# Altium footprint library DUS_9_8_15_0_5.PcbLib: 1 footprints
Each footprint in its own frame and in the unit in brackets; x right, y up, seen from the top. Pads: shape width x height; smd on the part's side, far side on the other; paste and mask are expansions set on the pad; w line width, h text height; cw(c..) or ccw(c..) is an arc to the next point about the centre after c.
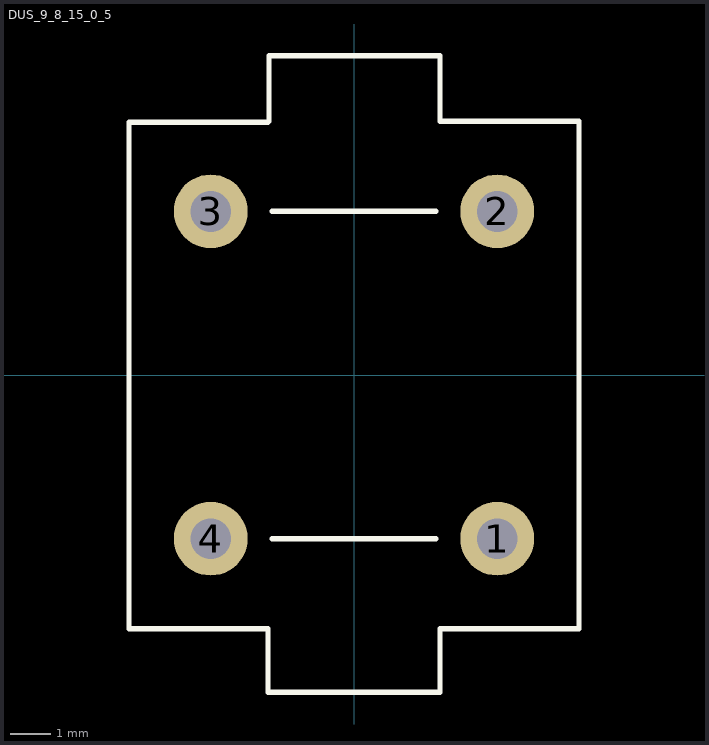
[diagram p0: the footprint, top view; thin cyan lines are the x and y axes]

## DUS_9_8_15_0_5 [mm] "DUS-9,8/.15/0,5"
pads (4):
  round 1.8 hole 1: 1(3.5,-4) 2(3.5,4) 3(-3.5,4) 4(-3.5,-4)
Top Overlay:
  lines w0.127: -2.1,-7.75 -2.1,-6.2 -5.5,-6.2 -5.5,6.175 -2.1,6.175 -2.075,6.2 -2.075,7.8 2.1,7.8 2.1,6.2 ; -2.1,-7.75 2.1,-7.75 2.1,-6.2 ; -2,-4 2,-4 ; -2,4 2,4 ; 2.1,-6.2 5.5,-6.2 5.5,6.2 2.1,6.2 ; 2.1,-6.2 2.1,-6.2 ; 2.1,6.2 2.1,6.2
3D body: height 15.45, standoff -3, extent -5.425,-7.782 5.425,7.781